# EAGLE library part P82B96 (library MDB_HOME_BACK2)
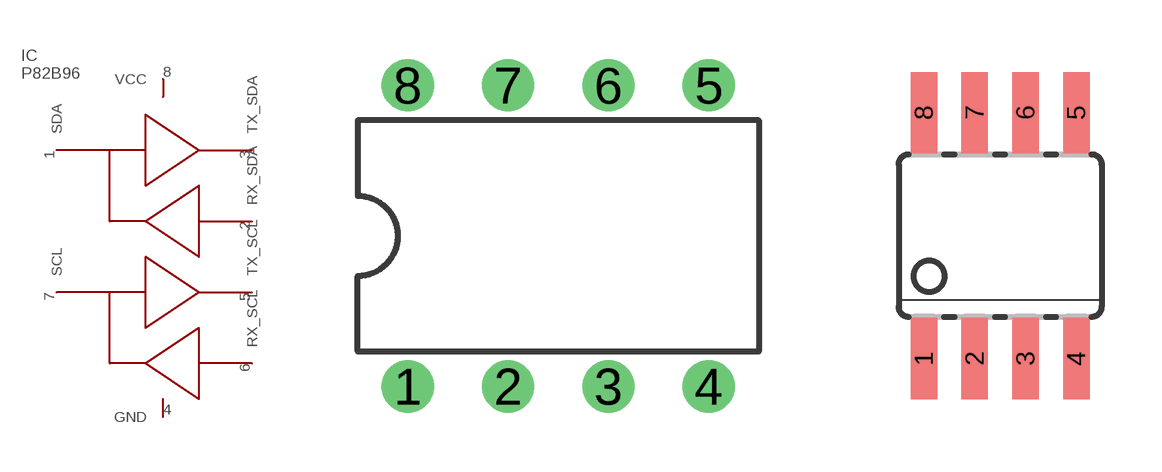
[diagram p14: symbol with the pads of DIL08; footprints DIL08, SOIC08]

Designator prefix IC

## P82B96_DIL  [DIL08]
1  SDA
2  RX_SDA
3  TX_SDA
4  GND
5  TX_SCL
6  RX_SCL
7  SCL
8  VCC

## P82B96_SOIC  [SOIC08]
Pads as for DIL08

## Footprint DIL08 (pad centres in mm)
Dual In Line Package
drill 0.813 pad 1.27: 1 -3.81,-3.81; 2 -1.27,-3.81; 3 1.27,-3.81; 4 3.81,-3.81; 5 3.81,3.81; 6 1.27,3.81; 7 -1.27,3.81; 8 -3.81,3.81

## Footprint SOIC08 (pad centres in mm)
Small Outline Package
smd 0.66 x 2.032: 1 -1.905,-3.073; 2 -0.635,-3.073; 3 0.635,-3.073; 4 1.905,-3.073; 5 1.905,3.073; 6 0.635,3.073; 7 -0.635,3.073; 8 -1.905,3.073